# Altium footprint library STC16.PcbLib: 33 footprints (part 2 of 3)
Each footprint in its own frame and in the unit in brackets; x right, y up, seen from the top. Pads: shape width x height; smd on the part's side, far side on the other; paste and mask are expansions set on the pad; w line width, h text height; cw(c..) or ccw(c..) is an arc to the next point about the centre after c.
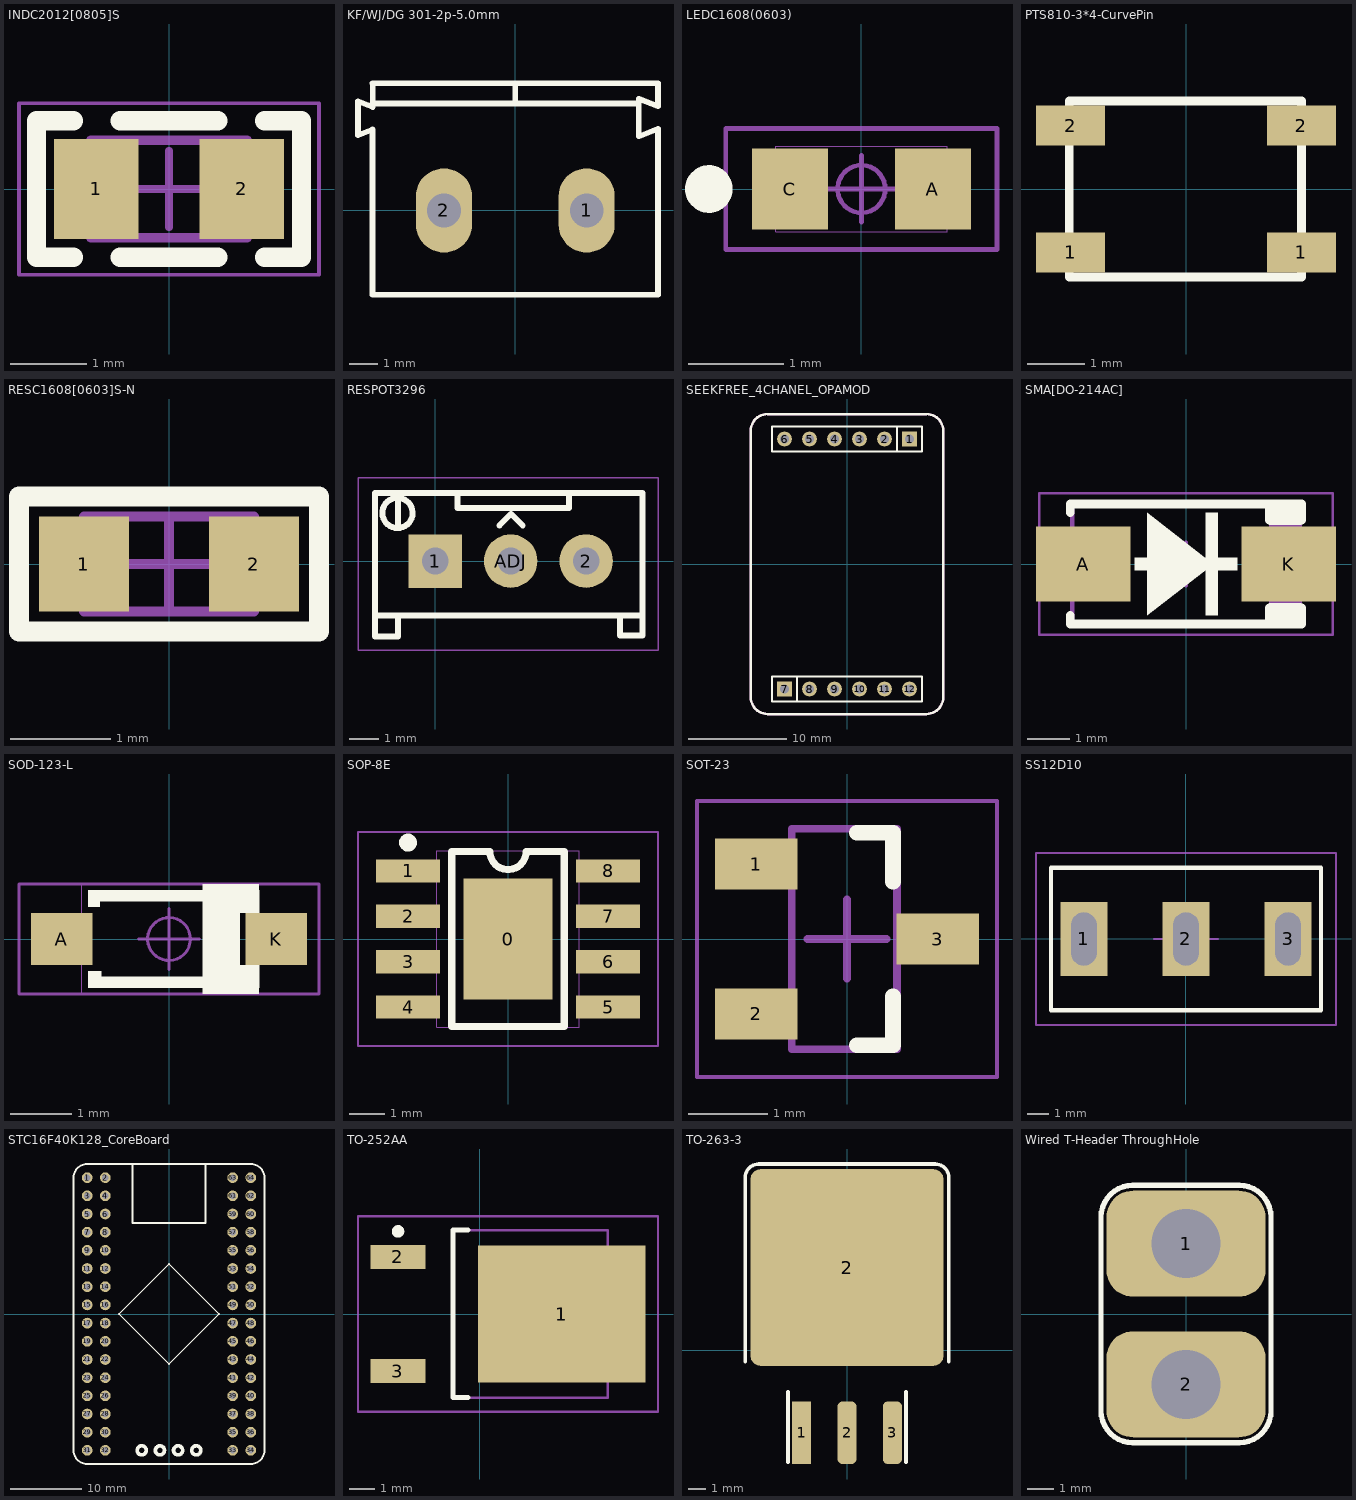
[diagram p1: the footprints below, top view; thin cyan lines are the x and y axes]

## INDC2012[0805]S [mm]
pads (2):
  rect 1.1x1.3 smd: 1(-0.948,0) 2(0.948,0)
Top Overlay:
  lines w0.25: -1.245,-0.889 -1.727,-0.889 -1.727,0.889 -1.245,0.889 ; -0.635,-0.889 0.635,-0.889 ; -0.635,0.889 0.635,0.889 ; 1.245,-0.889 1.727,-0.889 1.727,0.889 1.245,0.889
Mechanical 13:
  lines w0.127: -1.016,-0.635 -1.016,0.635 1.016,0.635 1.016,-0.635 -1.016,-0.635
Mechanical 15:
  lines w0.05: -1.956,-1.118 -1.956,1.118 1.956,1.118 1.956,-1.118 -1.956,-1.118
  lines w0.1: -0.5,0 0.5,0 ; 0,-0.5 0,0.5
3D body: height 0.8, standoff 0, extent 0.61,-0.635 1.016,0.635
3D body: height 0.8, standoff 0, extent -1.016,-0.635 -0.61,0.635
3D body: height 0.8, standoff 0, extent -0.61,-0.635 0.61,0.635

## KF/WJ/DG 301-2p-5.0mm [mm]
pads (2):
  oval 2x3 hole 1.2: 1(2.54,0) 2(-2.54,0)
Top Overlay:
  lines w0.2: -5.08,2.879 -5.6,2.676 -5.6,3.886 -5.08,3.683 -5.08,4.525 ; 5.08,-2.997 5.08,2.904 4.394,2.636 4.394,3.976 5.08,3.708 5.08,4.525
  lines w0.203: -5.08,2.879 -5.08,-2.997 5.08,-2.997 ; -5.08,3.81 4.365,3.81 ; -5.08,4.525 5.08,4.525 ; 0,3.81 0,4.445
3D body "Terminal-Screw-3A-2way.step": height 10, standoff -3, extent -5.6,-3 5,4.6

## LEDC1608(0603) [mm]
pads (2):
  rect 0.8x0.85 smd: A(0.75,0) C(-0.75,0)
Top Overlay:
  circle w0.25: c-1.6,0 r0.125
Mechanical 15:
  circle w0.05: c0,0 r0.25
  lines w0.001: -0.9,-0.45 -0.9,0.45 0.9,0.45 0.9,-0.45 -0.9,-0.45
  lines w0.05: -0.348,0 0.352,0 ; 0,-0.348 0,0.352 ; -1.422,-0.635 -1.422,0.635 1.422,0.635 1.422,-0.635 -1.422,-0.635
3D body "0603 (1608) LED Base (Separate Lens).STEP": height 0.64, standoff 0, extent -0.8,-0.4 0.8,0.4
3D body: height 0.64, standoff 0, extent -0.559,-0.4 0.559,0.4

## PTS810-3*4-CurvePin [mm]
pads (4):
  rect 1.2x0.7 smd: 1(-2,-1.1) 1(2,-1.1) 2(-2,1.1) 2(2,1.1)
Top Overlay:
  lines w0.152: -2.025,-1.524 -2.025,1.524 2,1.524 2,-1.524 -2.025,-1.524
3D body "User Library-PTS810.STEP": height 2.5, standoff 0, extent -2.301,-1.6 2.299,1.6

## RESC1608[0603]S-N [mm]
pads (2):
  rect 0.9x0.95 smd: 1(-0.85,0) 2(0.85,0)
Top Overlay:
  lines w0.2: -1.5,-0.675 1.499,-0.675 1.499,0.675 -1.5,0.675 -1.5,-0.675
Mechanical 13:
  lines w0.1: -0.85,-0.475 0.85,-0.475 0.85,0.475 -0.85,0.475 -0.85,-0.475
Mechanical 15:
  lines w0.05: -1.5,-0.675 1.5,-0.675 1.5,0.675 -1.5,0.675 -1.5,-0.675
  lines w0.1: -0.475,0 0.475,0 ; 0,-0.475 0,0.475
3D body "R0603.STEP": height 0.45, standoff 0, extent -0.8,-0.4 0.8,0.4

## RESPOT3296 [mm]
pads (3):
  rect 1.8x1.8 hole 0.9: 1(0,0)
  round 1.8 hole 0.9: 2(5.08,0) ADJ(2.54,0)
Top Overlay:
  lines w0.2: -2.032,-2.54 -2.032,-1.75 ; -2.032,-1.841 -2.032,0.46 -2.032,1.604 -2.032,2.286 6.985,2.286 6.985,0 6.985,-2.5 6.219,-2.5 6.219,-1.912 ; -2.016,-2.54 -1.25,-2.54 -1.25,-1.952 ; -1.25,1.2 -1.25,2.25 ; -0.762,1.651 ccw(c-1.27,1.618) -0.761,1.608 ; 0.75,2.286 0.75,1.778 4.5,1.778 4.5,2.286 ; 2.159,1.194 2.553,1.587 2.946,1.194
  lines w0.203: -2.032,-1.841 6.921,-1.841
Mechanical 15:
  lines w0.05: -2.6,-3 7.5,-3 7.5,2.8 -2.6,2.8 -2.6,-3
3D body "SW3dPS-Potenciometro Vertical.STEP": height 12.46, standoff -5.04, extent -2.06,-2.438 7.14,2.362

## SEEKFREE_4CHANEL_OPAMOD [mm]
pads (12):
  rect 1.5x1.5 hole 0.9: 1(6.35,12.7) 7(-6.35,-12.7)
  round 1.5 hole 0.9: 2(3.81,12.7) 3(1.27,12.7) 4(-1.27,12.7) 5(-3.81,12.7) 6(-6.35,12.7) 8(-3.81,-12.7) 9(-1.27,-12.7) 10(1.27,-12.7) 11(3.81,-12.7) 12(6.35,-12.7)
Top Overlay:
  lines w0.2: -5.1,-13.95 -5.1,-11.45 ; 5.1,11.45 5.1,13.95 ; -7.62,-13.97 -7.62,-11.43 7.62,-11.43 7.62,-13.97 -7.62,-13.97 ; -7.62,11.43 -7.62,13.97 7.62,13.97 7.62,11.43 -7.62,11.43
Top Overlay keep-out:
  lines w0.254: -9.779,-13.524 ccw(c-8.063,-13.524) -8.063,-15.24 8.063,-15.24 ccw(c8.063,-13.524) 9.779,-13.524 9.779,13.524 ccw(c8.063,13.524) 8.063,15.24 -8.063,15.24 ccw(c-8.063,13.524) -9.779,13.524 -9.779,-13.524
3D body "Female-Header-2.54-Single-6.stp": height 8.5, standoff -3.2, extent -7.743,11.475 7.747,13.975
3D body "Female-Header-2.54-Single-6.stp": height 8.5, standoff -3.2, extent -7.747,-13.975 7.743,-11.475
3D body "1001-6.STEP": height 8.54, standoff -3, extent -7.62,-13.97 7.62,-11.43
3D body "1001-6.STEP": height 8.54, standoff -3, extent -7.62,11.43 7.62,13.97

## SMA[DO-214AC] [mm]
pads (2):
  rect 2.2x1.75 smd: A(-2.4,0) K(2.4,0)
Top Overlay:
  rectangle: 1.941,-1.4 2.7,-0.914
  rectangle: 1.941,0.914 2.7,1.395
  rectangle: 0.451,-1.2 0.751,1.2
  rectangle: -1.2,-0.149 1.2,0.151
  region: -0.902,1.2 -0.902,-1.2 0.635,0
  lines w0.2: -2.7,-1.2 -2.7,-1.4 2.7,-1.4 2.7,-1.016 ; -2.7,1.2 -2.7,1.4 2.7,1.4 2.7,1.016 ; 1.941,-1.395 1.941,-1.016 ; 1.941,1.016 1.941,1.395
Mechanical 13:
  region: 2.655,1.395 1.941,1.395 1.941,-1.395 2.655,-1.395
  lines w0.1: -2.655,-1.395 -2.655,1.395 2.655,1.395 2.655,-1.395 -2.655,-1.395
Mechanical 15:
  lines w0.05: -3.425,-1.65 -3.425,1.65 3.425,1.65 3.425,-1.65 -3.425,-1.65
  lines w0.1: -0.5,0 0.5,0 ; 0,-0.5 0,0.5
3D body "SMA(DO-214AC).STEP": height 2.3, standoff 0, extent -2.905,-1.46 2.905,1.46

## SOD-123-L [mm]
pads (2):
  rect 1x0.85 smd: A(-1.75,0) K(1.75,0)
Top Overlay:
  rectangle: 0.549,-0.801 1.159,0.799
  rectangle: 0.549,-0.899 1.474,-0.696
  rectangle: -1.143,0.612 0.584,0.8
  rectangle: 0.549,0.698 1.474,0.901
  rectangle: -1.143,-0.8 0.584,-0.612
  rectangle: 1.15,0.425 1.475,0.8
  rectangle: 1.15,-0.8 1.475,-0.425
  region: -1.1,-0.525 -1.325,-0.525 -1.325,-0.8 -1.1,-0.8
  region: -1.125,0.8 -1.325,0.8 -1.325,0.525 -1.125,0.525
Mechanical 15:
  circle w0.05: c0,0 r0.35
  lines w0.001: -1.425,-0.9 -1.425,0.9 1.425,0.9 1.425,-0.9 -1.425,-0.9
  lines w0.05: -0.5,0 0.5,0 ; 0,-0.5 0,0.5 ; -2.45,-0.9 -2.45,0.9 2.45,0.9 2.45,-0.9 -2.45,-0.9
3D body "SOD-123.STEP": height 1.2, standoff 0, extent -1.85,-0.8 1.85,0.8

## SOP-8E [mm]
pads (9):
  rect 2.5x3.4 smd: 0(0,0)
  rect 1.8x0.65 smd: 1(-2.8,1.905) 2(-2.8,0.635) 3(-2.8,-0.635) 4(-2.8,-1.905) 5(2.8,-1.905) 6(2.8,-0.635) 7(2.8,0.635) 8(2.8,1.905)
Top Overlay:
  circle w0.25: c-2.8,2.7 r0.125
  lines w0.2: -1.575,-2.45 -1.575,2.45 -0.508,2.45 ccw(c0,2.45) 0.508,2.45 1.575,2.45 1.575,-2.45 -1.575,-2.45
Mechanical 15:
  circle w0.05: c0,0 r0.35
  lines w0.001: -2,-2.475 -2,2.475 2,2.475 2,-2.475 -2,-2.475
  lines w0.05: -0.5,0 0.5,0 ; 0,-0.5 0,0.5 ; -4.2,-3 -4.2,3 4.2,3 4.2,-3 -4.2,-3
3D body "SOIC8.STEP": height 1.75, standoff 0, extent -3.105,-2.45 3.105,2.45

## SOT-23 [mm]
pads (3):
  rect 1.05x0.65 smd: 1(-1.15,0.95) 2(-1.15,-0.95) 3(1.15,0)
Top Overlay:
  lines w0.2: 0.127,-1.346 0.584,-1.346 0.584,-0.725 ; 0.127,1.346 0.584,1.346 0.584,0.725
Mechanical 13:
  lines w0.1: -0.7,-1.397 -0.7,1.397 0.635,1.397 0.635,-1.397 -0.7,-1.397
Mechanical 15:
  lines w0.05: -1.9,-1.75 -1.9,1.75 1.9,1.75 1.9,-1.75 -1.9,-1.75
  lines w0.1: -0.5,0 0.5,0 ; 0,-0.5 0,0.5
3D body "SOT-23-3P.STEP": height 1.2, standoff 0, extent -1.4,-1.45 1.4,1.45

## SS12D10 [mm]
pads (3):
  rect 2.2x3.5 hole 1.2 slot 2.5 at 90 deg mask+0.07: 1(-4.8,0) 3(4.8,0)
  rect 2.2x3.5 hole 1.2 slot 2.5 at 90 deg mask+0.102: 2(0,0)
Top Overlay:
  lines w0.2: -6.35,-3.35 6.35,-3.35 6.35,3.35 -6.35,3.35 -6.35,-3.3
Mechanical 15:
  circle w0.1: c0,0 r0.813
  lines w0.1: -1.5,0 1.5,0 ; 0,-1.5 0,1.5 ; -7.05,-4.05 7.05,-4.05 7.05,4.05 -7.05,4.05 -7.05,-4.05
3D body: height 0.25, standoff 0, extent -2.565,-2.286 2.515,2.787

## STC16F40K128_CoreBoard [mm]
pads (64):
  round 1.5 hole 0.9: 1(-11.43,19.05) 2(-8.89,19.05) 3(-11.43,16.51) 4(-8.89,16.51) 5(-11.43,13.97) 6(-8.89,13.97) 7(-11.43,11.43) 8(-8.89,11.43) 9(-11.43,8.89) 10(-8.89,8.89) 11(-11.43,6.35) 12(-8.89,6.35) 13(-11.43,3.81) 14(-8.89,3.81) 15(-11.43,1.27) 16(-8.89,1.27) 17(-11.43,-1.27) 18(-8.89,-1.27) 19(-11.43,-3.81) 20(-8.89,-3.81) 21(-11.43,-6.35) 22(-8.89,-6.35) 23(-11.43,-8.89) 24(-8.89,-8.89) 25(-11.43,-11.43) 26(-8.89,-11.43) 27(-11.43,-13.97) 28(-8.89,-13.97) 29(-11.43,-16.51) 30(-8.89,-16.51) 31(-11.43,-19.05) 32(-8.89,-19.05) 33(8.89,-19.05) 34(11.43,-19.05) 35(8.89,-16.51) 36(11.43,-16.51) 37(8.89,-13.97) 38(11.43,-13.97) 39(8.89,-11.43) 40(11.43,-11.43) 41(8.89,-8.89) 42(11.43,-8.89) 43(8.89,-6.35) 44(11.43,-6.35) 45(8.89,-3.81) 46(11.43,-3.81) 47(8.89,-1.27) 48(11.43,-1.27) 49(8.89,1.27) 50(11.43,1.27) 51(8.89,3.81) 52(11.43,3.81) 53(8.89,6.35) 54(11.43,6.35) 55(8.89,8.89) 56(11.43,8.89) 57(8.89,11.43) 58(11.43,11.43) 59(8.89,13.97) 60(11.43,13.97) 61(8.89,16.51) 62(11.43,16.51) 63(8.89,19.05) 64(11.43,19.05)
Top Overlay:
  circle w0.508: c-3.81,-19.05 r0.635
  circle w0.508: c-1.27,-19.05 r0.635
  circle w0.508: c1.27,-19.05 r0.635
  circle w0.508: c3.81,-19.05 r0.635
  lines w0.254: -5.08,20.955 -5.08,12.7 5.08,12.7 5.08,20.955 ; -13.335,-19.05 ccw(c-11.43,-19.05) -11.43,-20.955 11.43,-20.955 ccw(c11.43,-19.05) 13.335,-19.05 13.335,19.05 ccw(c11.43,19.05) 11.43,20.955 -11.43,20.955 ccw(c-11.43,19.05) -13.335,19.05 -13.335,-19.05 ; -6.985,0 0,-6.985 6.985,0 0,6.985 -6.985,0

## TO-252AA [mm]
pads (3):
  rect 6.7x5.5 smd: 1(3.275,0)
  rect 2.2x0.95 smd: 2(-3.275,2.28) 3(-3.275,-2.28)
Top Overlay:
  circle w0.25: c-3.275,3.305 r0.125
  lines w0.2: -0.475,-3.35 -1.075,-3.35 -1.075,3.35 -0.475,3.35
Mechanical 13:
  lines w0.1: -1.075,-3.35 5.125,-3.35 5.125,3.35 -1.075,3.35 -1.075,-3.35
Mechanical 15:
  lines w0.1: 0.625,0 1.625,0 ; 1.125,-0.5 1.125,0.5 ; -4.875,-3.9 7.125,-3.9 7.125,3.9 -4.875,3.9 -4.875,-3.9
3D body "User Library-DPAK-1.STEP": height 2.39, standoff -0.02, extent -3.775,-3.27 6.163,3.27

## TO-263-3 [mm]
pads (4):
  rect 1.07x3.5 smd: 1(-2.54,-4.623)
  rrect50% 1.07x3.5 smd: 2(0,-4.623) 3(2.54,-4.623)
  rrect10% 10.8x11 smd: 2(0,4.623)
Top Overlay:
  lines w0.2: -5.7,-0.657 -5.7,9.65 cw(c-4.934,9.65) -4.934,10.416 4.934,10.416 cw(c4.934,9.65) 5.7,9.65
  lines w0.203: -3.302,-6.274 -3.302,-2.334 ; 3.302,-6.274 3.302,-2.334 ; 5.7,-0.657 5.7,9.65
3D body "D2PAK TO-263-3.step": height 4.87, standoff 0, extent -5.08,-5.389 5.08,8.841

## Wired T-Header ThroughHole [mm]
pads (2):
  rrect50% 6x4 hole 2.6: 1(0,2.65) 2(0,-2.65)
Top Overlay:
  lines w0.203: -3.2,-3.65 ccw(c-2,-3.65) -2,-4.85 2,-4.85 ccw(c2,-3.65) 3.2,-3.65 3.2,3.65 ccw(c2,3.65) 2,4.85 -2,4.85 ccw(c-2,3.65) -3.2,3.65 -3.2,-3.65